# EAGLE library part MC1455BP1G (library ON Semiconductor_By_element14_Batch_1)
Timers
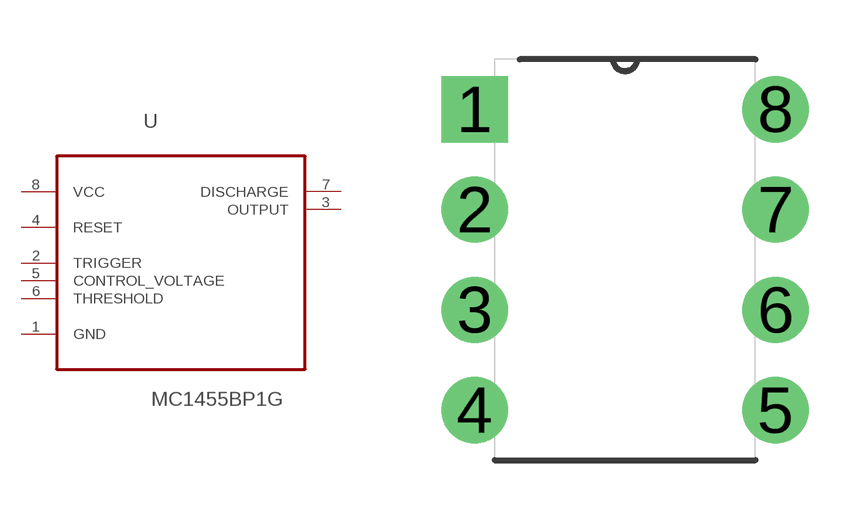
[diagram p303: symbol with the pads of DIP254P762X445-8; footprint DIP254P762X445-8]

Designator prefix U

## MC1455BP1G (MPN: MC1455BP1G; OC_FARNELL: 1468729; OC_NEWARK: 98H0658; P1I: o; PACKAGE: PDIP-8; SUPPLIER: ON SEMICONDUCTOR)  [DIP254P762X445-8]
1  GND  pas
2  TRIGGER  in
3  OUTPUT  out
4  RESET  in
5  CONTROL_VOLTAGE  in
6  THRESHOLD  in
7  DISCHARGE  out
8  VCC  pwr

## Footprint DIP254P762X445-8 (pad centres in mm)
drill 1.118 square: 1 -7.62,7.62
drill 1.118: 2 -7.62,5.08; 3 -7.62,2.54; 4 -7.62,0; 5 0,0; 6 0,2.54; 7 0,5.08; 8 0,7.62